# Altium schematic symbol library 4-pin.SchLib: 1 symbol
Pins are listed as number, name and electrical type; pins without a type are passive.

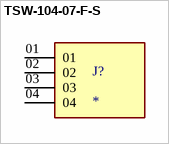
[diagram p0: symbol TSW-104-07-F-S]

## TSW-104-07-F-S
designator J?
MP: TSW-104-07-F-S; MF: Samtec; Price: None; Package: None; Availability: Unavailable; Value: *
footprint SAMTEC_TSW-104-07-F-S
pins: 01, 02, 03, 04